# EAGLE library part ATMEGA3209-48-MFR (library my-MicrochipTechnology)
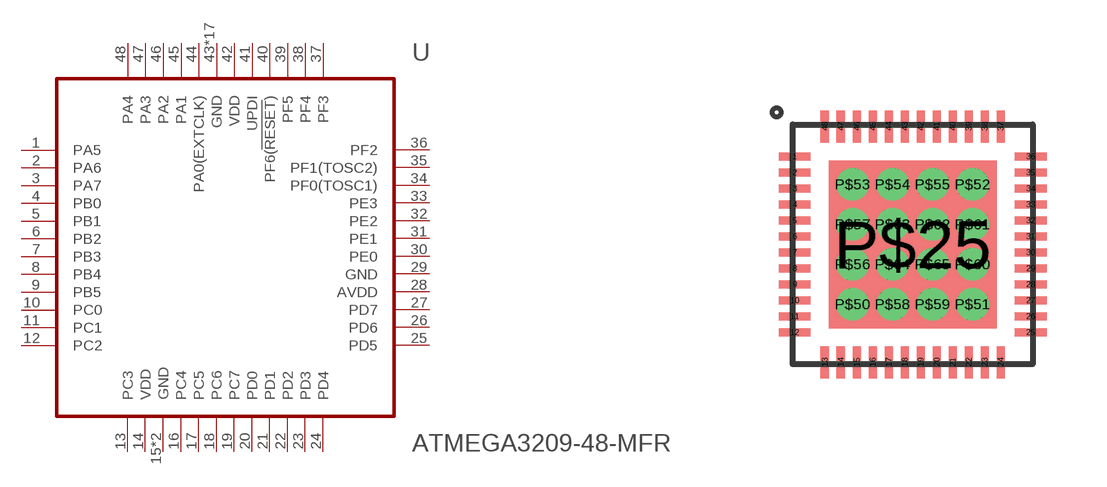
[diagram p7: symbol with the pads of QFN-48(6X6MM); footprint QFN-48(6X6MM)]

Designator prefix -

## ATMEGA3209-48-MFR  [QFN-48(6X6MM)]
1  PA5
2  PA6
3  PA7
4  PB0
5  PB1
6  PB2
7  PB3
8  PB4
9  PB5
10  PC0
11  PC1
12  PC2
13  PC3
14  VDD
15  GND
16  PC4
17  PC5
18  PC6
19  PC7
20  PD0
21  PD1
22  PD2
23  PD3
24  PD4
25  PD5
26  PD6
27  PD7
28  AVDD
29  GND
30  PE0
31  PE1
32  PE2
33  PE3
34  PF0(TOSC1)
35  PF1(TOSC2)
36  PF2
37  PF3
38  PF4
39  PF5
40  PF6(!RESET!)
41  UPDI
42  VDD
43  GND
44  PA0(EXTCLK)
45  PA1
46  PA2
47  PA3
48  PA4
P$25  GND
P$50  GND
P$51  GND
P$52  GND
P$53  GND
P$54  GND
P$55  GND
P$56  GND
P$57  GND
P$58  GND
P$59  GND
P$60  GND
P$61  GND
P$62  GND
P$63  GND
P$64  GND
P$65  GND

## Footprint QFN-48(6X6MM) (pad centres in mm)
smd 0.8 x 0.2: 1 -2.95,2.2; 2 -2.95,1.8; 3 -2.95,1.4; 4 -2.95,1; 5 -2.95,0.6; 6 -2.95,0.2; 7 -2.95,-0.2; 8 -2.95,-0.6; 9 -2.95,-1; 10 -2.95,-1.4; 11 -2.95,-1.8; 12 -2.95,-2.2; 25 2.95,-2.2; 26 2.95,-1.8; 27 2.95,-1.4; 28 2.95,-1; 29 2.95,-0.6; 30 2.95,-0.2; 31 2.95,0.2; 32 2.95,0.6; 33 2.95,1; 34 2.95,1.4; 35 2.95,1.8; 36 2.95,2.2
smd 0.2 x 0.8: 13 -2.2,-2.95; 14 -1.8,-2.95; 15 -1.4,-2.95; 16 -1,-2.95; 17 -0.6,-2.95; 18 -0.2,-2.95; 19 0.2,-2.95; 20 0.6,-2.95; 21 1,-2.95; 22 1.4,-2.95; 23 1.8,-2.95; 24 2.2,-2.95; 37 2.2,2.95; 38 1.8,2.95; 39 1.4,2.95; 40 1,2.95; 41 0.6,2.95; 42 0.2,2.95; 43 -0.2,2.95; 44 -0.6,2.95; 45 -1,2.95; 46 -1.4,2.95; 47 -1.8,2.95; 48 -2.2,2.95
smd 4.2 x 4.2: P$25 0,0
drill 0.3 pad 0.6: P$50 -1.5,-1.5; P$51 1.5,-1.5; P$52 1.5,1.5; P$53 -1.5,1.5; P$54 -0.5,1.5; P$55 0.5,1.5; P$56 -1.5,-0.5; P$57 -1.5,0.5; P$58 -0.5,-1.5; P$59 0.5,-1.5; P$60 1.5,-0.5; P$61 1.5,0.5; P$62 0.5,0.5; P$63 -0.5,0.5; P$64 -0.5,-0.5; P$65 0.5,-0.5